# Altium schematic symbol library PM5432.223NLT.SchLib: 1 symbol
Pins are listed as number, name and electrical type; pins without a type are passive.

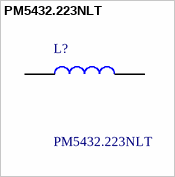
[diagram p0: symbol PM5432.223NLT]

## PM5432.223NLT
designator L?
Power Inductors - SMD 22uH 5A AEC-Q200 DCR=60.63mOhms 20%; Manufacturer_Name: Yageo Group; Geometry.Height: 6mm; Manufacturer_Part_Number: PM5432.223NLT; Mouser Part Number: 673-PM5432.223NLT; Mouser Price/Stock: https://www.mouser.co.uk/ProductDetail/Pulse-Electronics/PM5432.223NLT?qs=pUKx8fyJudA8Ps5Zqdw%2FMg%3D%3D; Arrow Part Number: PM5432.223NLT; Arrow Price/Stock: https://www.arrow.com/en/products/pm5432.223nlt/pulse-electronics-corporation?region=nac; Datasheet Link: https://www.digikey.com/en/products/detail/pulse-electronics/PM5432-223NLT/13693997?s=N4IgTCBcDaIAoFkCsAWAzGAdGMaByAMgCogC6AvkA
footprint PM5432223NLT
pins: 1, 2